# Altium footprint library GPIO_INTERFACE.PcbLib: 1 footprints
Each footprint in its own frame and in the unit in brackets; x right, y up, seen from the top. Pads: shape width x height; smd on the part's side, far side on the other; paste and mask are expansions set on the pad; w line width, h text height; cw(c..) or ccw(c..) is an arc to the next point about the centre after c.
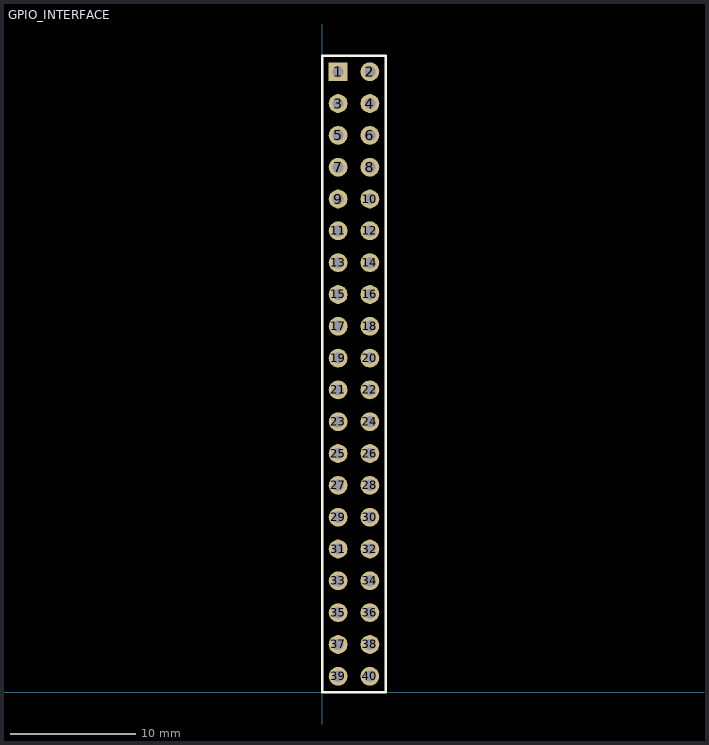
[diagram p0: the footprint, top view; thin cyan lines are the x and y axes]

## GPIO_INTERFACE [mm]
pads (40):
  rect 1.5x1.5 hole 0.9: 1(1.27,49.53)
  round 1.5 hole 0.9: 2(3.81,49.53) 3(1.27,46.99) 4(3.81,46.99) 5(1.27,44.45) 6(3.81,44.45) 7(1.27,41.91) 8(3.81,41.91) 9(1.27,39.37) 10(3.81,39.37) 11(1.27,36.83) 12(3.81,36.83) 13(1.27,34.29) 14(3.81,34.29) 15(1.27,31.75) 16(3.81,31.75) 17(1.27,29.21) 18(3.81,29.21) 19(1.27,26.67) 20(3.81,26.67) 21(1.27,24.13) 22(3.81,24.13) 23(1.27,21.59) 24(3.81,21.59) 25(1.27,19.05) 26(3.81,19.05) 27(1.27,16.51) 28(3.81,16.51) 29(1.27,13.97) 30(3.81,13.97) 31(1.27,11.43) 32(3.81,11.43) 33(1.27,8.89) 34(3.81,8.89) 35(1.27,6.35) 36(3.81,6.35) 37(1.27,3.81) 38(3.81,3.81) 39(1.27,1.27) 40(3.81,1.27)
Top Overlay:
  lines w0.2: 0,0 0,50.8 5.08,50.8 5.08,0 0,0